# Altium footprint library QUTMS_MicrofitLibrary.PcbLib: 64 footprints (part 3 of 4)
Each footprint in its own frame and in the unit in brackets; x right, y up, seen from the top. Pads: shape width x height; smd on the part's side, far side on the other; paste and mask are expansions set on the pad; w line width, h text height; cw(c..) or ccw(c..) is an arc to the next point about the centre after c.
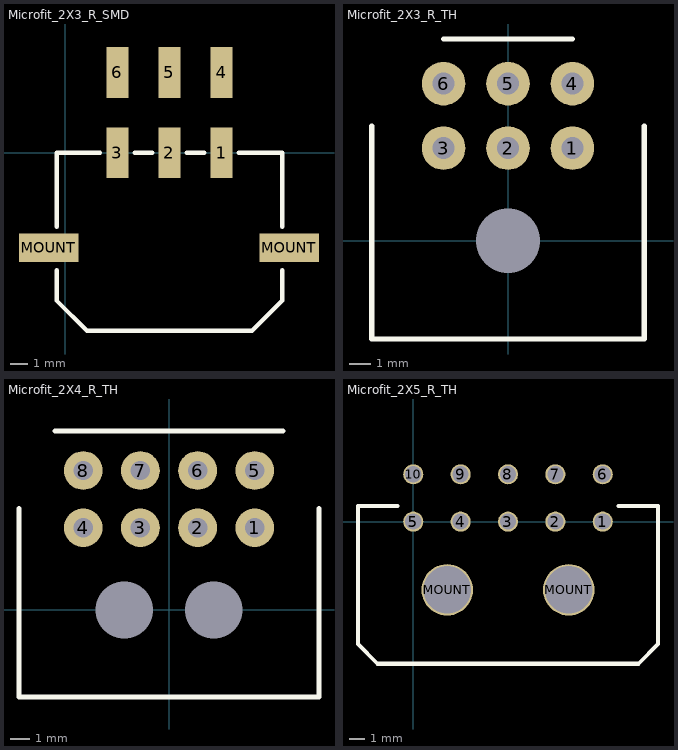
[diagram p2: the footprints below, top view; thin cyan lines are the x and y axes]

## Microfit_2X3_R_SMD [mm]
pads (8):
  rect 1.27x2.92 smd: 1(9,0) 2(6,0) 3(3,0) 4(9,4.63) 5(6,4.63) 6(3,4.63)
  rect 3.43x1.65 smd: MOUNT(-0.95,-5.47) MOUNT(12.895,-5.47)
Top Overlay:
  lines w0.254: -0.5,-6.75 -0.5,-8.5 1.25,-10.25 10.75,-10.25 12.5,-8.5 ; -0.5,-4.25 -0.5,0 2,0 ; 4,0 5,0 ; 7,0 8,0 ; 10,0 12.5,0 12.5,-4.25 ; 12.5,-6.75 12.5,-8.5 ; 12.5,-8.5 12.5,-8.5
3D body "430450609.stp": height 8.83, standoff 0.06, extent -2.325,-9.955 14.325,5.445

## Microfit_2X3_R_TH [mil]
pads (7):
  round 80 hole 40: 1(118.11,170) 2(0,170) 3(-118.11,170) 4(118.11,288.19) 5(0,288.19) 6(-118.11,288.19)
  round 0 hole 118.11 mask+10: NC(0,0)
Top Overlay:
  lines w10: -250,210 -250,-180 250,-180 250,210 ; -118.11,370 118.11,370
3D body "430450600.stp": height 350.16, standoff -120.31, extent -258.85,-180.07 258.86,301.81

## Microfit_2X3_V_SMD [mil]

## Microfit_2X3_V_TH [mil]

## Microfit_2X4_R_SMD [mil]

## Microfit_2X4_R_TH [mil]
pads (10):
  round 80 hole 40: 1(177.17,170) 2(59.06,170) 3(-59.06,170) 4(-177.17,170) 5(177.17,288.19) 6(59.06,288.19) 7(-59.06,288.19) 8(-177.17,288.19)
  round 0 hole 118.11 mask+10: NC(-92.52,0) NC(92.52,0)
Top Overlay:
  lines w10: -310,210 -310,-180 310,-180 310,210 ; -236.22,370 236.22,370
3D body "430450800.stp": height 350.16, standoff -120.31, extent -317.91,-180.07 317.92,301.81

## Microfit_2X4_V_SMD [mil]

## Microfit_2X4_V_TH [mil]

## Microfit_2X5_R_SMD [mil]

## Microfit_2X5_R_TH [mm]
pads (12):
  round 1.27 hole 1.02: 1(12,0) 2(9,0) 3(6,0) 4(3,0) 5(0,0) 6(12,3) 7(9,3) 8(6,3) 9(3,3) 10(0,3)
  round 3.27 hole 3: MOUNT(2.15,-4.32) MOUNT(9.85,-4.32)
Top Overlay:
  lines w0.254: -1,1 -3.5,1 -3.5,-7.75 -2.25,-9 14.25,-9 15.5,-7.75 15.5,1 13,1
3D body "430451000.stp": height 8.33, standoff -3.62, extent -3.575,-8.955 15.575,3.285

## Microfit_2X5_V_SMD [mil]

## Microfit_2X5_V_TH [mil]

## Microfit_2X6_R_SMD [mil]

## Microfit_2X6_R_TH [mil]

## Microfit_2X6_V_SMD [mil]

## Microfit_2X6_V_TH [mil]